# Altium footprint library 粉墨.PcbLib: 2 footprints
Each footprint in its own frame and in the unit in brackets; x right, y up, seen from the top. Pads: shape width x height; smd on the part's side, far side on the other; paste and mask are expansions set on the pad; w line width, h text height; cw(c..) or ccw(c..) is an arc to the next point about the centre after c.
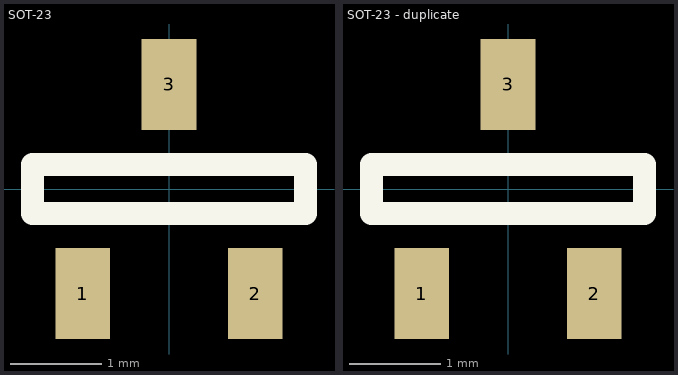
[diagram p0: the footprints below, top view; thin cyan lines are the x and y axes]

## SOT-23 [mm] "SOT-23-3"
height 1.1
pads (3):
  rect 0.6x1 smd: 1(-0.95,-1.15) 2(0.95,-1.15) 3(0,1.15)
Top Overlay:
  lines w0.254: -1.5,-0.27 -1.5,0.27 1.5,0.27 1.5,-0.27 -1.5,-0.27
3D body "SOT-23-3.STEP": height 0.99, standoff 0.01, extent -1.46,-1.275 1.46,1.273

## SOT-23 - duplicate [mm] "SOT-23-3"
height 1.1
pads (3):
  rect 0.6x1 smd: 1(-0.95,-1.15) 2(0.95,-1.15) 3(0,1.15)
Top Overlay:
  lines w0.254: -1.5,-0.27 -1.5,0.27 1.5,0.27 1.5,-0.27 -1.5,-0.27
3D body "SOT-23-3.STEP": height 0.99, standoff 0.01, extent -1.46,-1.275 1.46,1.273